# EAGLE library part AQW614EH (library AQW614EH)
PANASONIC - AQW614EH - MOSFET Relay, 400 V, 100 mA, 35 ohm, SPST-NO Source: Datasheet <https://industry.panasonic.com/ac/cdn/e/control/relay/photomos/catalog/semi_eng_ge1a1b_aqw61_e.pdf>
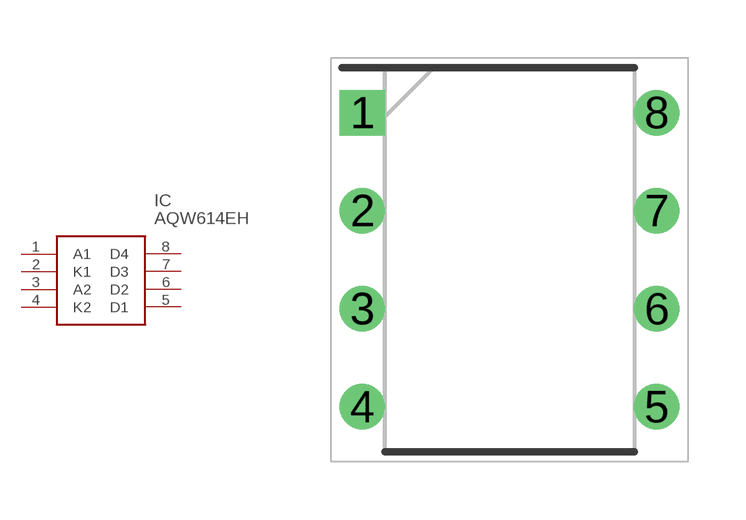
[diagram p0: symbol with the pads of DIP762W47P254L986H340Q8N; footprint DIP762W47P254L986H340Q8N]

Designator prefix IC

## AQW614EH (Description: PANASONIC - AQW614EH - MOSFET Relay, 400 V, 100 mA, 35 ohm, SPST-NO; Height: 3.4mm; Manufacturer_Name: Panasonic; Manufacturer_Part_Number: AQW614EH; Mouser_Part_Number: 769-AQW614EH; Mouser_Price-Stock: https://www.mouser.co.uk/ProductDetail/Panasonic-Industrial-Devices/AQW614EH?qs=sEN%2FkO1EG6ZhUHJMW3faVQ%3D%3D)  [DIP762W47P254L986H340Q8N]
1  A1
2  K1
3  A2
4  K2
5  D1
6  D2
7  D3
8  D4

## Footprint DIP762W47P254L986H340Q8N (pad centres in mm)
dip-8
drill 0.67 pad 1.07 square: 1 -3.81,3.81
drill 0.67 pad 1.07: 2 -3.81,1.27; 3 -3.81,-1.27; 4 -3.81,-3.81; 5 3.81,-3.81; 6 3.81,-1.27; 7 3.81,1.27; 8 3.81,3.81